# Altium schematic symbol library 1803374.SchLib: 1 symbol
Pins are listed as number, name and electrical type; pins without a type are passive.

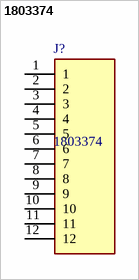
[diagram p0: symbol 1803374]

## 1803374
designator J?
MC 1,5/12-G-3,81 - PCB headers, nominal cross section: 1.5 mm<sup>2</sup>, color: green, nominal current: 8 A, rated voltage (III/2): 160 V, contact surface: Sn, contact connection type: Pin, number of potentials: 12, number of rows: 1, number of positions: 12, number of connections: 12, product range: MC 1,5/..-G, pitch: 3.81 mm, screw head form: L Slotted, mounting: Wave soldering, pin layout: Linear pinning, solder pin [P]: 3.4 mm, number of solder pins per potential: 1, plug-in system: COMBICON MC 1,5,; Manufacturer_Name: Phoenix Contact; Geometry.Height: 8.25mm; Mouser Part Number: 651-1803374; Mouser Price/Stock: https://www.mouser.co.uk/ProductDetail/Phoenix-Contact/1803374?qs=%2FbRkJSLTVS9mX%2FTOf8pTQA%3D%3D; Manufacturer_Part_Number: 1803374; Datasheet Link: https://www.phoenixcontact.com/en-us/products/pcb-header-mc-1512-g-381-1803374?type=pdf
footprint 1803374
pins: 1, 2, 3, 4, 5, 6, 7, 8, 9, 10, 11, 12